# Altium schematic symbol library SCH - DRIVER - LED - TI UCC28880D.SchLib: 1 symbol
Pins are listed as number, name and electrical type; pins without a type are passive.

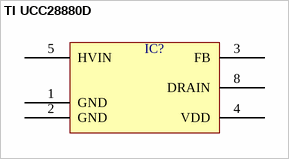
[diagram p0: symbol TI UCC28880D]

## TI UCC28880D
designator IC?  (value not drawn)
pins: 1 GND, 2 GND, 3 FB, 4 VDD, 5 HVIN, 8 DRAIN